# EAGLE library part PC104_PLUS (library PC-104-Plus)
PC/104-Plus 16 bit
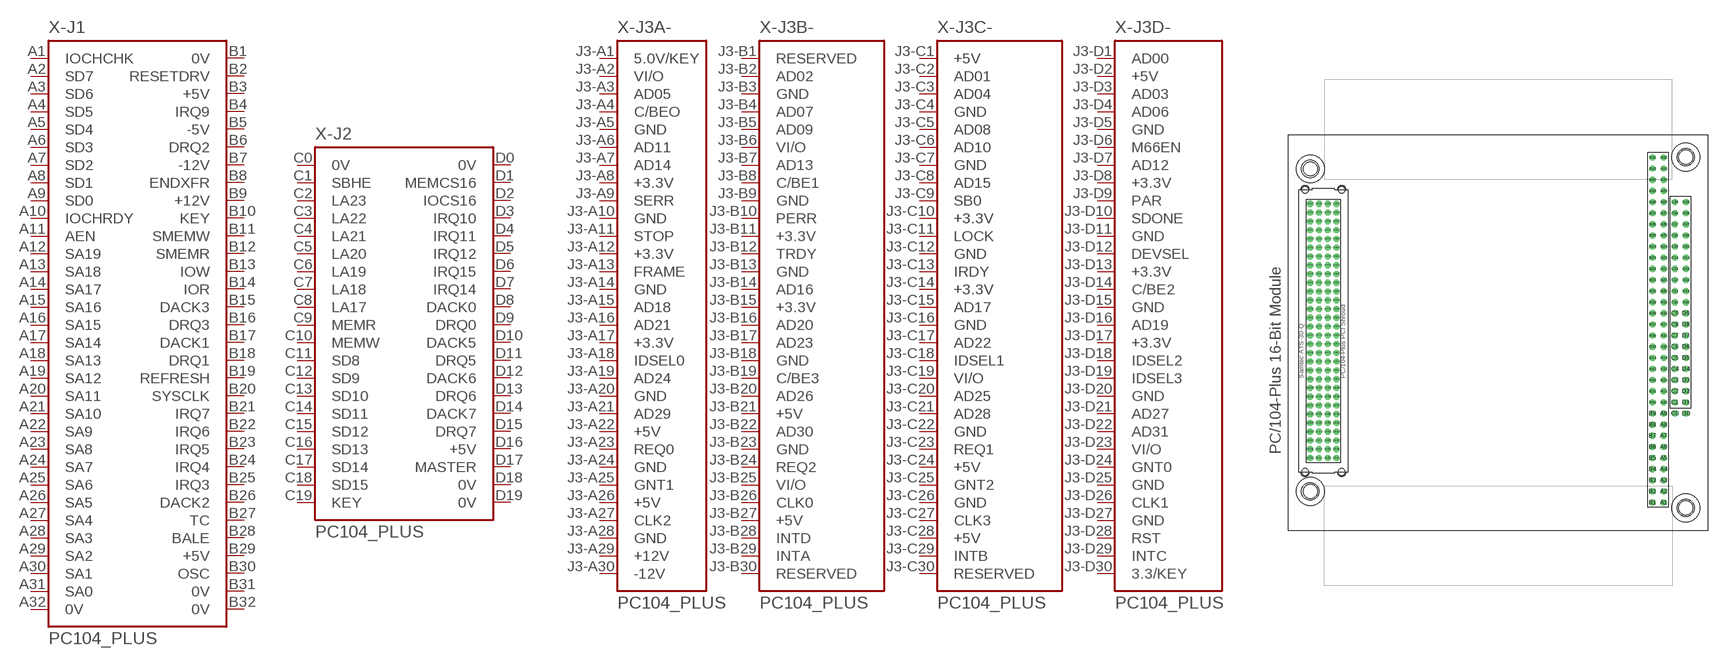
[diagram p0: symbol with the pads of PC104-PLUS; footprint PC104-PLUS]

Designator prefix X; gates -J1=PC104-J1 -J2=PC104-J2 -J3A-=PC104J3A -J3B-=PC104J3B -J3C-=PC104J3C -J3D-=PC104J3D

## PC104_PLUS  [PC104-PLUS]
A1  -J1:IOCHCHK  pas
A2  -J1:SD7  pas
A3  -J1:SD6  pas
A4  -J1:SD5  pas
A5  -J1:SD4  pas
A6  -J1:SD3  pas
A7  -J1:SD2  pas
A8  -J1:SD1  pas
A9  -J1:SD0  pas
A10  -J1:IOCHRDY  pas
A11  -J1:AEN  pas
A12  -J1:SA19  pas
A13  -J1:SA18  pas
A14  -J1:SA17  pas
A15  -J1:SA16  pas
A16  -J1:SA15  pas
A17  -J1:SA14  pas
A18  -J1:SA13  pas
A19  -J1:SA12  pas
A20  -J1:SA11  pas
A21  -J1:SA10  pas
A22  -J1:SA9  pas
A23  -J1:SA8  pas
A24  -J1:SA7  pas
A25  -J1:SA6  pas
A26  -J1:SA5  pas
A27  -J1:SA4  pas
A28  -J1:SA3  pas
A29  -J1:SA2  pas
A30  -J1:SA1  pas
A31  -J1:SA0  pas
A32  -J1:0V  pas
B1  -J1:0V  pas
B2  -J1:RESETDRV  pas
B3  -J1:+5V  pas
B4  -J1:IRQ9  pas
B5  -J1:-5V  pas
B6  -J1:DRQ2  pas
B7  -J1:-12V  pas
B8  -J1:ENDXFR  pas
B9  -J1:+12V  pas
B10  -J1:KEY  pas
B11  -J1:SMEMW  pas
B12  -J1:SMEMR  pas
B13  -J1:IOW  pas
B14  -J1:IOR  pas
B15  -J1:DACK3  pas
B16  -J1:DRQ3  pas
B17  -J1:DACK1  pas
B18  -J1:DRQ1  pas
B19  -J1:REFRESH  pas
B20  -J1:SYSCLK  pas
B21  -J1:IRQ7  pas
B22  -J1:IRQ6  pas
B23  -J1:IRQ5  pas
B24  -J1:IRQ4  pas
B25  -J1:IRQ3  pas
B26  -J1:DACK2  pas
B27  -J1:TC  pas
B28  -J1:BALE  pas
B29  -J1:+5V  pas
B30  -J1:OSC  pas
B31  -J1:0V  pas
B32  -J1:0V  pas
C0  -J2:0V  pas
C1  -J2:SBHE  pas
C2  -J2:LA23  pas
C3  -J2:LA22  pas
C4  -J2:LA21  pas
C5  -J2:LA20  pas
C6  -J2:LA19  pas
C7  -J2:LA18  pas
C8  -J2:LA17  pas
C9  -J2:MEMR  pas
C10  -J2:MEMW  pas
C11  -J2:SD8  pas
C12  -J2:SD9  pas
C13  -J2:SD10  pas
C14  -J2:SD11  pas
C15  -J2:SD12  pas
C16  -J2:SD13  pas
C17  -J2:SD14  pas
C18  -J2:SD15  pas
C19  -J2:KEY  pas
D0  -J2:0V  pas
D1  -J2:MEMCS16  pas
D2  -J2:IOCS16  pas
D3  -J2:IRQ10  pas
D4  -J2:IRQ11  pas
D5  -J2:IRQ12  pas
D6  -J2:IRQ15  pas
D7  -J2:IRQ14  pas
D8  -J2:DACK0  pas
D9  -J2:DRQ0  pas
D10  -J2:DACK5  pas
D11  -J2:DRQ5  pas
D12  -J2:DACK6  pas
D13  -J2:DRQ6  pas
D14  -J2:DACK7  pas
D15  -J2:DRQ7  pas
D16  -J2:+5V  pas
D17  -J2:MASTER  pas
D18  -J2:0V  pas
D19  -J2:0V  pas
J3-A1  -J3A-:5.0V/KEY  pas
J3-A2  -J3A-:VI/O  pas
J3-A3  -J3A-:AD05  pas
J3-A4  -J3A-:C/BEO  pas
J3-A5  -J3A-:GND  pas
J3-A6  -J3A-:AD11  pas
J3-A7  -J3A-:AD14  pas
J3-A8  -J3A-:+3.3V  pas
J3-A9  -J3A-:SERR  pas
J3-A10  -J3A-:GND  pas
J3-A11  -J3A-:STOP  pas
J3-A12  -J3A-:+3.3V  pas
J3-A13  -J3A-:FRAME  pas
J3-A14  -J3A-:GND  pas
J3-A15  -J3A-:AD18  pas
J3-A16  -J3A-:AD21  pas
J3-A17  -J3A-:+3.3V  pas
J3-A18  -J3A-:IDSEL0  pas
J3-A19  -J3A-:AD24  pas
J3-A20  -J3A-:GND  pas
J3-A21  -J3A-:AD29  pas
J3-A22  -J3A-:+5V  pas
J3-A23  -J3A-:REQ0  pas
J3-A24  -J3A-:GND  pas
J3-A25  -J3A-:GNT1  pas
J3-A26  -J3A-:+5V  pas
J3-A27  -J3A-:CLK2  pas
J3-A28  -J3A-:GND  pas
J3-A29  -J3A-:+12V  pas
J3-A30  -J3A-:-12V  pas
J3-B1  -J3B-:RESERVED  pas
J3-B2  -J3B-:AD02  pas
J3-B3  -J3B-:GND  pas
J3-B4  -J3B-:AD07  pas
J3-B5  -J3B-:AD09  pas
J3-B6  -J3B-:VI/O  pas
J3-B7  -J3B-:AD13  pas
J3-B8  -J3B-:C/BE1  pas
J3-B9  -J3B-:GND  pas
J3-B10  -J3B-:PERR  pas
J3-B11  -J3B-:+3.3V  pas
J3-B12  -J3B-:TRDY  pas
J3-B13  -J3B-:GND  pas
J3-B14  -J3B-:AD16  pas
J3-B15  -J3B-:+3.3V  pas
J3-B16  -J3B-:AD20  pas
J3-B17  -J3B-:AD23  pas
J3-B18  -J3B-:GND  pas
J3-B19  -J3B-:C/BE3  pas
J3-B20  -J3B-:AD26  pas
J3-B21  -J3B-:+5V  pas
J3-B22  -J3B-:AD30  pas
J3-B23  -J3B-:GND  pas
J3-B24  -J3B-:REQ2  pas
J3-B25  -J3B-:VI/O  pas
J3-B26  -J3B-:CLK0  pas
J3-B27  -J3B-:+5V  pas
J3-B28  -J3B-:INTD  pas
J3-B29  -J3B-:INTA  pas
J3-B30  -J3B-:RESERVED  pas
J3-C1  -J3C-:+5V  pas
J3-C2  -J3C-:AD01  pas
J3-C3  -J3C-:AD04  pas
J3-C4  -J3C-:GND  pas
J3-C5  -J3C-:AD08  pas
J3-C6  -J3C-:AD10  pas
J3-C7  -J3C-:GND  pas
J3-C8  -J3C-:AD15  pas
J3-C9  -J3C-:SB0  pas
J3-C10  -J3C-:+3.3V  pas
J3-C11  -J3C-:LOCK  pas
J3-C12  -J3C-:GND  pas
J3-C13  -J3C-:IRDY  pas
J3-C14  -J3C-:+3.3V  pas
J3-C15  -J3C-:AD17  pas
J3-C16  -J3C-:GND  pas
J3-C17  -J3C-:AD22  pas
J3-C18  -J3C-:IDSEL1  pas
J3-C19  -J3C-:VI/O  pas
J3-C20  -J3C-:AD25  pas
J3-C21  -J3C-:AD28  pas
J3-C22  -J3C-:GND  pas
J3-C23  -J3C-:REQ1  pas
J3-C24  -J3C-:+5V  pas
J3-C25  -J3C-:GNT2  pas
J3-C26  -J3C-:GND  pas
J3-C27  -J3C-:CLK3  pas
J3-C28  -J3C-:+5V  pas
J3-C29  -J3C-:INTB  pas
J3-C30  -J3C-:RESERVED  pas
J3-D1  -J3D-:AD00  pas
J3-D2  -J3D-:+5V  pas
J3-D3  -J3D-:AD03  pas
J3-D4  -J3D-:AD06  pas
J3-D5  -J3D-:GND  pas
J3-D6  -J3D-:M66EN  pas
J3-D7  -J3D-:AD12  pas
J3-D8  -J3D-:+3.3V  pas
J3-D9  -J3D-:PAR  pas
J3-D10  -J3D-:SDONE  pas
J3-D11  -J3D-:GND  pas
J3-D12  -J3D-:DEVSEL  pas
J3-D13  -J3D-:+3.3V  pas
J3-D14  -J3D-:C/BE2  pas
J3-D15  -J3D-:GND  pas
J3-D16  -J3D-:AD19  pas
J3-D17  -J3D-:+3.3V  pas
J3-D18  -J3D-:IDSEL2  pas
J3-D19  -J3D-:IDSEL3  pas
J3-D20  -J3D-:GND  pas
J3-D21  -J3D-:AD27  pas
J3-D22  -J3D-:AD31  pas
J3-D23  -J3D-:VI/O  pas
J3-D24  -J3D-:GNT0  pas
J3-D25  -J3D-:GND  pas
J3-D26  -J3D-:CLK1  pas
J3-D27  -J3D-:GND  pas
J3-D28  -J3D-:RST  pas
J3-D29  -J3D-:INTC  pas
J3-D30  -J3D-:3.3/KEY  pas

## Footprint PC104-PLUS (pad centres in mm)
PC/104-Plus 16 bit
drill 0.9 octagon: A1 85.74,6.35; A2 85.74,8.89; A3 85.74,11.43; A4 85.74,13.97; A5 85.74,16.51; A6 85.74,19.05; A7 85.74,21.59; A8 85.74,24.13; A9 85.74,26.67; A10 85.74,29.21; A11 85.74,31.75; A12 85.74,34.29; A13 85.74,36.83; A14 85.74,39.37; A15 85.74,41.91; A16 85.74,44.45; A17 85.74,46.99; A18 85.74,49.53; A19 85.74,52.07; A20 85.74,54.61; A21 85.74,57.15; A22 85.74,59.69; A23 85.74,62.23; A24 85.74,64.77; A25 85.74,67.31; A26 85.74,69.85; A27 85.74,72.39; A28 85.74,74.93; A29 85.74,77.47; A30 85.74,80.01; A31 85.74,82.55; A32 85.74,85.09; B1 83.2,6.35; B2 83.2,8.89; B3 83.2,11.43; B4 83.2,13.97; B5 83.2,16.51; B6 83.2,19.05; B7 83.2,21.59; B8 83.2,24.13; B9 83.2,26.67; B10 83.2,29.21; B11 83.2,31.75; B12 83.2,34.29; B13 83.2,36.83; B14 83.2,39.37; B15 83.2,41.91; B16 83.2,44.45; B17 83.2,46.99; B18 83.2,49.53; B19 83.2,52.07; B20 83.2,54.61; B21 83.2,57.15; B22 83.2,59.69; B23 83.2,62.23; B24 83.2,64.77; B25 83.2,67.31; B26 83.2,69.85; B27 83.2,72.39; B28 83.2,74.93; B29 83.2,77.47; B30 83.2,80.01; B31 83.2,82.55; B32 83.2,85.09; C0 88.28,26.67; C1 88.28,29.21; C2 88.28,31.75; C3 88.28,34.29; C4 88.28,36.83; C5 88.28,39.37; C6 88.28,41.91; C7 88.28,44.45; C8 88.28,46.99; C9 88.28,49.53; C10 88.28,52.07; C11 88.28,54.61; C12 88.28,57.15; C13 88.28,59.69; C14 88.28,62.23; C15 88.28,64.77; C16 88.28,67.31; C17 88.28,69.85; C18 88.28,72.39; C19 88.28,74.93; D0 90.82,26.67; D1 90.82,29.21; D2 90.82,31.75; D3 90.82,34.29; D4 90.82,36.83; D5 90.82,39.37; D6 90.82,41.91; D7 90.82,44.45; D8 90.82,46.99; D9 90.82,49.53; D10 90.82,52.07; D11 90.82,54.61; D12 90.82,57.15; D13 90.82,59.69; D14 90.82,62.23; D15 90.82,64.77; D16 90.82,67.31; D17 90.82,69.85; D18 90.82,72.39; D19 90.82,74.93; J3-A1 11.095,16.51; J3-A2 11.095,18.51; J3-A3 11.095,20.51; J3-A4 11.095,22.51; J3-A5 11.095,24.51; J3-A6 11.095,26.51; J3-A7 11.095,28.51; J3-A8 11.095,30.51; J3-A9 11.095,32.51; J3-A10 11.095,34.51; J3-A11 11.095,36.51; J3-A12 11.095,38.51; J3-A13 11.095,40.51; J3-A14 11.095,42.51; J3-A15 11.095,44.51; J3-A16 11.095,46.51; J3-A17 11.095,48.51; J3-A18 11.095,50.51; J3-A19 11.095,52.51; J3-A20 11.095,54.51; J3-A21 11.095,56.51; J3-A22 11.095,58.51; J3-A23 11.095,60.51; J3-A24 11.095,62.51; J3-A25 11.095,64.51; J3-A26 11.095,66.51; J3-A27 11.095,68.51; J3-A28 11.095,70.51; J3-A29 11.095,72.51; J3-A30 11.095,74.51; J3-B1 9.095,16.51; J3-B2 9.095,18.51; J3-B3 9.095,20.51; J3-B4 9.095,22.51; J3-B5 9.095,24.51; J3-B6 9.095,26.51; J3-B7 9.095,28.51; J3-B8 9.095,30.51; J3-B9 9.095,32.51; J3-B10 9.095,34.51; J3-B11 9.095,36.51; J3-B12 9.095,38.51; J3-B13 9.095,40.51; J3-B14 9.095,42.51; J3-B15 9.095,44.51; J3-B16 9.095,46.51; J3-B17 9.095,48.51; J3-B18 9.095,50.51; J3-B19 9.095,52.51; J3-B20 9.095,54.51; J3-B21 9.095,56.51; J3-B22 9.095,58.51; J3-B23 9.095,60.51; J3-B24 9.095,62.51; J3-B25 9.095,64.51; J3-B26 9.095,66.51; J3-B27 9.095,68.51; J3-B28 9.095,70.51; J3-B29 9.095,72.51; J3-B30 9.095,74.51; J3-C1 7.095,16.51; J3-C2 7.095,18.51; J3-C3 7.095,20.51; J3-C4 7.095,22.51; J3-C5 7.095,24.51; J3-C6 7.095,26.51; J3-C7 7.095,28.51; J3-C8 7.095,30.51; J3-C9 7.095,32.51; J3-C10 7.095,34.51; J3-C11 7.095,36.51; J3-C12 7.095,38.51; J3-C13 7.095,40.51; J3-C14 7.095,42.51; J3-C15 7.095,44.51; J3-C16 7.095,46.51; J3-C17 7.095,48.51; J3-C18 7.095,50.51; J3-C19 7.095,52.51; J3-C20 7.095,54.51; J3-C21 7.095,56.51; J3-C22 7.095,58.51; J3-C23 7.095,60.51; J3-C24 7.095,62.51; J3-C25 7.095,64.51; J3-C26 7.095,66.51; J3-C27 7.095,68.51; J3-C28 7.095,70.51; J3-C29 7.095,72.51; J3-C30 7.095,74.51; J3-D1 5.095,16.51; J3-D2 5.095,18.51; J3-D3 5.095,20.51; J3-D4 5.095,22.51; J3-D5 5.095,24.51; J3-D6 5.095,26.51; J3-D7 5.095,28.51; J3-D8 5.095,30.51; J3-D9 5.095,32.51; J3-D10 5.095,34.51; J3-D11 5.095,36.51; J3-D12 5.095,38.51; J3-D13 5.095,40.51; J3-D14 5.095,42.51; J3-D15 5.095,44.51; J3-D16 5.095,46.51; J3-D17 5.095,48.51; J3-D18 5.095,50.51; J3-D19 5.095,52.51; J3-D20 5.095,54.51; J3-D21 5.095,56.51; J3-D22 5.095,58.51; J3-D23 5.095,60.51; J3-D24 5.095,62.51; J3-D25 5.095,64.51; J3-D26 5.095,66.51; J3-D27 5.095,68.51; J3-D28 5.095,70.51; J3-D29 5.095,72.51; J3-D30 5.095,74.51
hole 3.18 at 5.1,8.9
hole 3.18 at 5.1,82.5
hole 3.18 at 90.8,5.1
hole 3.18 at 90.8,85.2